# Altium footprint library PcbLib1.PcbLib: 2 footprints
Each footprint in its own frame and in the unit in brackets; x right, y up, seen from the top. Pads: shape width x height; smd on the part's side, far side on the other; paste and mask are expansions set on the pad; w line width, h text height; cw(c..) or ccw(c..) is an arc to the next point about the centre after c.
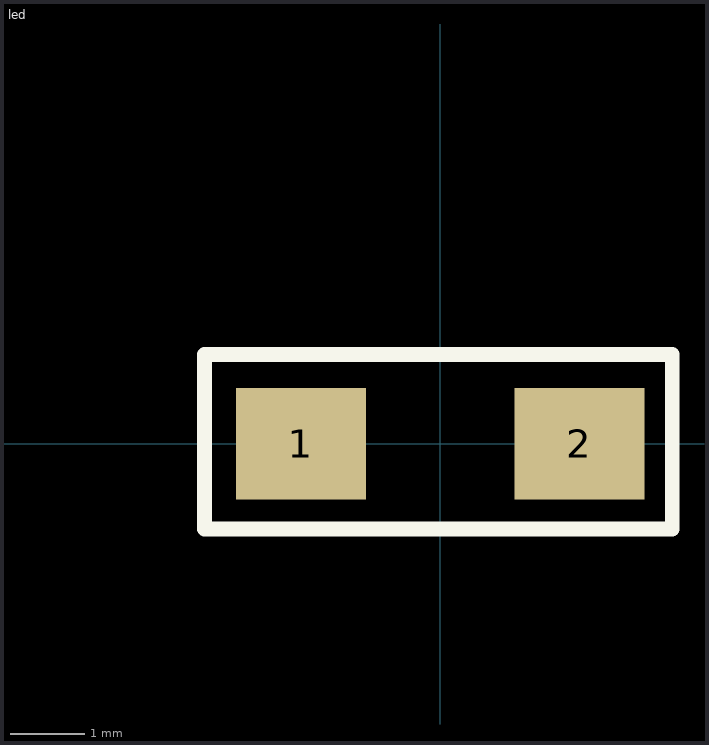
[diagram p0: the footprints below, top view; thin cyan lines are the x and y axes]

## led [mm]
pads (2):
  rect 1.75x1.5 smd: 1(-1.875,0) 2(1.875,0)
Top Overlay:
  lines w0.2: -3.175,-1.15 3.125,-1.15 3.125,1.2 -3.175,1.2 -3.175,0.025 -3.175,-1.15
  text "D'.Component_Count'" at -5.446,1.504 h1.52

## PCBComponent_1 [mm]